# Altium footprint library ENGG4000-SysMoDEL-BMS.PcbLib: 82 footprints (part 2 of 6)
Each footprint in its own frame and in the unit in brackets; x right, y up, seen from the top. Pads: shape width x height; smd on the part's side, far side on the other; paste and mask are expansions set on the pad; w line width, h text height; cw(c..) or ccw(c..) is an arc to the next point about the centre after c.
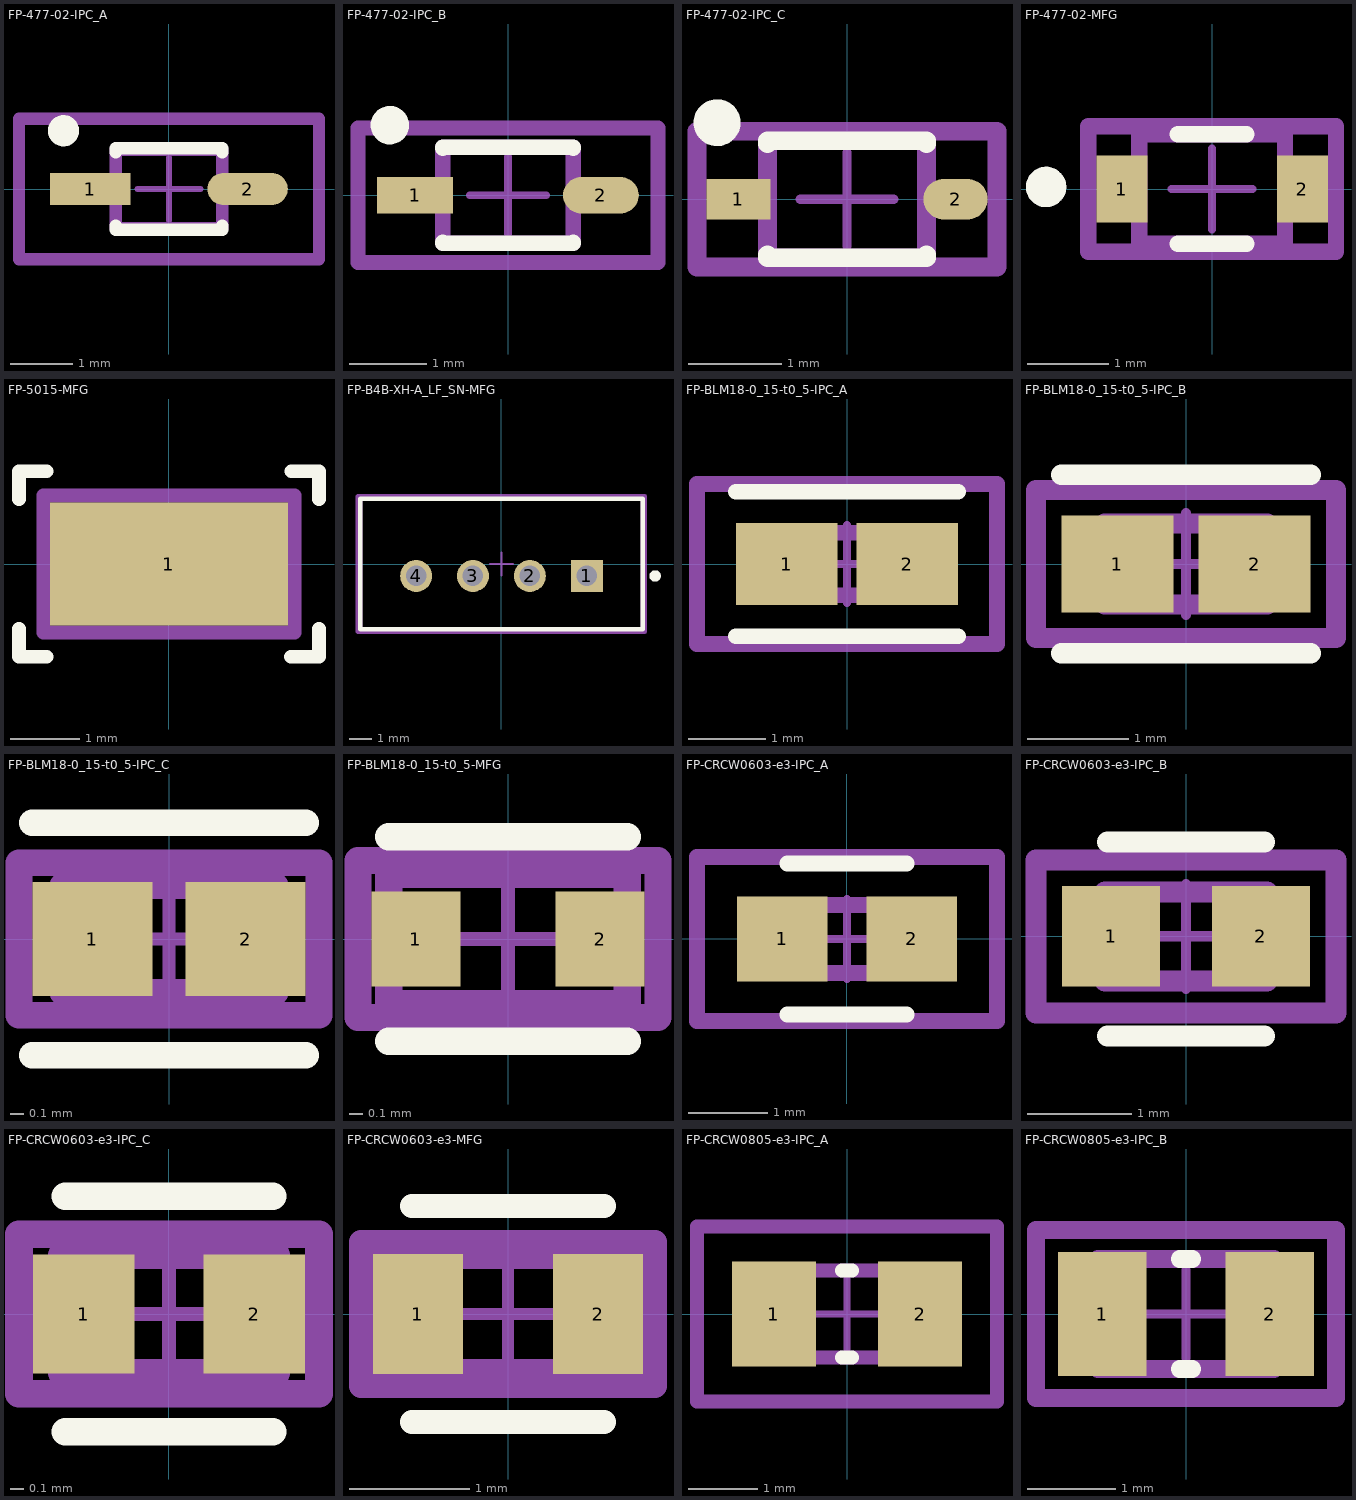
[diagram p1: the footprints below, top view; thin cyan lines are the x and y axes]

## FP-477-02-IPC_A [mm]
pads (2):
  rect 1.286x0.516 smd paste+0 mask+0: 1(-1.26,0)
  rrect100% 1.286x0.516 smd paste+0 mask+0: 2(1.26,0)
Top Overlay:
  circle w0.25: c-1.689,0.933 r0.125
  lines w0.2: -0.85,-0.585 -0.85,-0.65 0.85,-0.65 0.85,-0.585 ; -0.85,0.585 -0.85,0.65 0.85,0.65 0.85,0.585
Top Assembly:
  lines w0.2: -2.403,-1.125 -2.403,1.125 2.403,1.125 2.403,-1.125 -2.403,-1.125
  text ".Designator" at 0,0.188 h1
Top 3D Body:
  lines w0.2: -0.85,-0.625 -0.85,0.625 0.85,0.625 0.85,-0.625 -0.85,-0.625
Top Courtyard:
  lines w0.2: -2.403,-1.125 -2.403,1.125 2.403,1.125 2.403,-1.125 -2.403,-1.125
Top Component Center:
  lines w0.1: -0.5,0 0.5,0 ; 0,-0.5 0,0.5
3D body "Diode_ON_Semiconductor_NSR02100HT1G_eec.STEP": height 0.25, standoff 0, extent -2.403,-1.125 2.403,1.125

## FP-477-02-IPC_B [mm]
pads (2):
  rect 0.986x0.476 smd paste+0 mask+0: 1(-1.21,0)
  rrect100% 0.986x0.476 smd paste+0 mask+0: 2(1.21,0)
Top Overlay:
  circle w0.25: c-1.539,0.913 r0.125
  lines w0.2: -0.85,-0.613 -0.85,-0.625 0.85,-0.625 0.85,-0.613 ; -0.85,0.613 -0.85,0.625 0.85,0.625 0.85,0.613
Top Assembly:
  lines w0.2: -1.953,-0.875 1.953,-0.875 1.953,0.875 -1.953,0.875 -1.953,-0.875
  text ".Designator" at 0,0.188 h1
Top 3D Body:
  lines w0.2: -0.85,-0.625 0.85,-0.625 0.85,0.625 -0.85,0.625 -0.85,-0.625
Top Courtyard:
  lines w0.2: -1.953,-0.875 1.953,-0.875 1.953,0.875 -1.953,0.875 -1.953,-0.875
Top Component Center:
  lines w0.1: -0.5,0 0.5,0 ; 0,-0.5 0,0.5
3D body "Diode_ON_Semiconductor_NSR02100HT1G_eec.STEP": height 0.25, standoff 0, extent -1.953,-0.875 1.953,0.875

## FP-477-02-IPC_C [mm]
pads (2):
  rect 0.686x0.436 smd paste+0 mask+0: 1(-1.16,0)
  rrect100% 0.686x0.436 smd paste+0 mask+0: 2(1.16,0)
Top Overlay:
  circle w0.25: c-1.389,0.818 r0.125
  lines w0.2: -0.85,-0.593 -0.85,-0.625 0.85,-0.625 0.85,-0.593 ; -0.85,0.593 -0.85,0.625 0.85,0.625 0.85,0.593
Top Assembly:
  lines w0.2: -1.603,-0.725 -1.603,0.725 1.603,0.725 1.603,-0.725 -1.603,-0.725
  text ".Designator" at 0,0.188 h1
Top 3D Body:
  lines w0.2: -0.85,-0.625 -0.85,0.625 0.85,0.625 0.85,-0.625 -0.85,-0.625
Top Courtyard:
  lines w0.2: -1.603,-0.725 -1.603,0.725 1.603,0.725 1.603,-0.725 -1.603,-0.725
Top Component Center:
  lines w0.1: -0.5,0 0.5,0 ; 0,-0.5 0,0.5
3D body "Diode_ON_Semiconductor_NSR02100HT1G_eec.STEP": height 0.25, standoff 0, extent -1.603,-0.725 1.603,0.725

## FP-477-02-MFG [mm]
pads (2):
  rect 0.63x0.83 smd paste+0 mask+0: 1(-1.115,0) 2(1.115,0)
Top Overlay:
  circle w0.25: c-2.05,0.025 r0.125
  lines w0.2: -0.425,-0.675 0.425,-0.675 ; -0.425,0.675 0.425,0.675
Top Assembly:
  lines w0.2: -1.53,-0.775 -1.53,0.775 1.53,0.775 1.53,-0.775 -1.53,-0.775
  text ".Designator" at 0,0 h1
Top 3D Body:
  lines w0.2: -0.9,-0.675 -0.9,0.675 0.9,0.675 0.9,-0.675 -0.9,-0.675
Top Courtyard:
  lines w0.2: -1.53,-0.775 -1.53,0.775 1.53,0.775 1.53,-0.775 -1.53,-0.775
Top Component Center:
  lines w0.1: -0.5,0 0.5,0 ; 0,-0.5 0,0.5
3D body "Diode_ON_Semiconductor_NSR02100HT1G_eec.STEP": height 0.25, standoff 0, extent -1.53,-0.775 1.53,0.775

## FP-5015-MFG [mm]
pads (1):
  rect 3.43x1.78 smd paste+0 mask+0: 1(0,0)
Top Overlay:
  lines w0.2: -2.165,-0.94 -2.165,-1.34 -1.765,-1.34 ; -2.165,0.94 -2.165,1.34 -1.765,1.34 ; 1.764,-1.339 2.164,-1.339 2.164,-0.939 ; 1.766,1.339 2.166,1.339 2.166,0.939
Top Assembly:
  lines w0.2: -1.815,-0.99 1.815,-0.99 1.815,0.99 -1.815,0.99 -1.815,-0.99
  text ".Designator" at 0,0 h1
Top 3D Body:
  lines w0.2: -1.359,-0.572 1.359,-0.572 1.359,0.572 -1.359,0.572 -1.359,-0.572
Top Courtyard:
  lines w0.2: -1.815,-0.99 1.815,-0.99 1.815,0.99 -1.815,0.99 -1.815,-0.99
Top Component Center:
  lines w0.1: -0.5,0 0.5,0 ; 0,-0.5 0,0.5

## FP-B4B-XH-A_LF_SN-MFG [mm]
pads (4):
  rect 1.4x1.4 hole 0.9 paste-2539.97 mask+0: 1(3.75,-0.525)
  round 1.4 hole 0.9 paste-2539.97 mask+0: 2(1.25,-0.525) 3(-1.25,-0.525) 4(-3.75,-0.525)
Top Overlay:
  circle w0.25: c6.75,-0.525 r0.125
  lines w0.2: -6.2,-2.875 -6.2,2.875 6.2,2.875 6.2,-2.875 -6.2,-2.875
Top Assembly:
  lines w0.2: -6.3,-2.975 -6.3,2.975 6.3,2.975 6.3,-2.975 -6.3,-2.975
  text ".Designator" at 0,0.188 h1
Top 3D Body:
  lines w0.2: -6.2,-2.875 -6.2,2.875 6.2,2.875 6.2,-2.875 -6.2,-2.875
Top Courtyard:
  lines w0.2: -6.3,-2.975 -6.3,2.975 6.3,2.975 6.3,-2.975 -6.3,-2.975
Top Component Center:
  lines w0.1: -0.5,0 0.5,0 ; 0,-0.5 0,0.5
3D body "Conn_JST_B4B-XH-A_LF_SN_eec.STEP": height 0.25, standoff 0, extent -6.3,-2.975 6.3,2.975

## FP-BLM18-0_15-t0_5-IPC_A [mm]
pads (2):
  rect 1.306x1.058 smd paste+0 mask+0: 1(-0.776,0) 2(0.776,0)
Top Overlay:
  lines w0.2: -1.429,-0.929 1.429,-0.929 ; -1.429,0.929 1.429,0.929
Top Assembly:
  lines w0.2: -1.929,-1.029 -1.929,1.029 1.929,1.029 1.929,-1.029 -1.929,-1.029
  text ".Designator" at 0,0.188 h1
Top 3D Body:
  lines w0.2: -0.8,-0.4 -0.8,0.4 0.8,0.4 0.8,-0.4 -0.8,-0.4
Top Courtyard:
  lines w0.2: -1.929,-1.029 -1.929,1.029 1.929,1.029 1.929,-1.029 -1.929,-1.029
Top Component Center:
  lines w0.1: -0.5,0 0.5,0 ; 0,-0.5 0,0.5
3D body "FBead_Murata_BLM18EG331TN1D_eec.STEP": height 0.25, standoff 0, extent -1.929,-1.029 1.929,1.029

## FP-BLM18-0_15-t0_5-IPC_B [mm]
pads (2):
  rect 1.106x0.958 smd paste+0 mask+0: 1(-0.676,0) 2(0.676,0)
Top Overlay:
  lines w0.2: -1.229,-0.879 1.229,-0.879 ; -1.229,0.879 1.229,0.879
Top Assembly:
  lines w0.2: -1.479,-0.729 1.479,-0.729 1.479,0.729 -1.479,0.729 -1.479,-0.729
  text ".Designator" at 0,0.188 h1
Top 3D Body:
  lines w0.2: -0.8,-0.4 0.8,-0.4 0.8,0.4 -0.8,0.4 -0.8,-0.4
Top Courtyard:
  lines w0.2: -1.479,-0.729 1.479,-0.729 1.479,0.729 -1.479,0.729 -1.479,-0.729
Top Component Center:
  lines w0.1: -0.5,0 0.5,0 ; 0,-0.5 0,0.5
3D body "FBead_Murata_BLM18EG331TN1D_eec.STEP": height 0.25, standoff 0, extent -1.479,-0.729 1.479,0.729

## FP-BLM18-0_15-t0_5-IPC_C [mm]
pads (2):
  rect 0.906x0.858 smd paste+0 mask+0: 1(-0.576,0) 2(0.576,0)
Top Overlay:
  lines w0.2: -1.029,-0.875 1.029,-0.875 ; -1.029,0.875 1.029,0.875
Top Assembly:
  lines w0.2: -1.129,-0.575 1.129,-0.575 1.129,0.575 -1.129,0.575 -1.129,-0.575
  text ".Designator" at 0,0.188 h1
Top 3D Body:
  lines w0.2: -0.8,-0.4 0.8,-0.4 0.8,0.4 -0.8,0.4 -0.8,-0.4
Top Courtyard:
  lines w0.2: -1.129,-0.575 1.129,-0.575 1.129,0.575 -1.129,0.575 -1.129,-0.575
Top Component Center:
  lines w0.1: -0.5,0 0.5,0 ; 0,-0.5 0,0.5
3D body "FBead_Murata_BLM18EG331TN1D_eec.STEP": height 0.25, standoff 0, extent -1.129,-0.575 1.129,0.575

## FP-BLM18-0_15-t0_5-MFG [mm]
pads (2):
  rect 0.65x0.7 smd paste+0 mask+0: 1(-0.675,0) 2(0.675,0)
Top Overlay:
  lines w0.2: -0.875,-0.75 0.875,-0.75 ; -0.875,0.75 0.875,0.75
Top Assembly:
  lines w0.2: -1.1,-0.575 -1.1,0.575 1.1,0.575 1.1,-0.575 -1.1,-0.575
  text ".Designator" at 0,0.188 h1
Top 3D Body:
  lines w0.2: -0.875,-0.475 -0.875,0.475 0.875,0.475 0.875,-0.475 -0.875,-0.475
Top Courtyard:
  lines w0.2: -1.1,-0.575 -1.1,0.575 1.1,0.575 1.1,-0.575 -1.1,-0.575
Top Component Center:
  lines w0.1: -0.5,0 0.5,0 ; 0,-0.5 0,0.5
3D body "FBead_Murata_BLM18EG331TN1D_eec.STEP": height 0.25, standoff 0, extent -1.1,-0.575 1.1,0.575

## FP-CRCW0603-e3-IPC_A [mm]
pads (2):
  rect 1.135x1.062 smd paste+0 mask+0: 1(-0.815,0) 2(0.815,0)
Top Overlay:
  lines w0.2: -0.75,-0.95 0.75,-0.95 ; -0.75,0.95 0.75,0.95
Top Assembly:
  lines w0.2: -1.883,-1.031 -1.883,1.031 1.883,1.031 1.883,-1.031 -1.883,-1.031
  text ".Designator" at 0,0.188 h1
Top 3D Body:
  lines w0.2: -0.775,-0.425 -0.775,0.425 0.775,0.425 0.775,-0.425 -0.775,-0.425
Top Courtyard:
  lines w0.2: -1.883,-1.031 -1.883,1.031 1.883,1.031 1.883,-1.031 -1.883,-1.031
Top Component Center:
  lines w0.1: -0.5,0 0.5,0 ; 0,-0.5 0,0.5
3D body "Res_Vishay_CRCW06033M90FKEC_eec.STEP": height 0.25, standoff 0, extent -1.883,-1.031 1.883,1.031

## FP-CRCW0603-e3-IPC_B [mm]
pads (2):
  rect 0.935x0.962 smd paste+0 mask+0: 1(-0.715,0) 2(0.715,0)
Top Overlay:
  lines w0.2: -0.75,-0.95 0.75,-0.95 ; -0.75,0.9 0.75,0.9
Top Assembly:
  lines w0.2: -1.433,-0.731 -1.433,0.731 1.433,0.731 1.433,-0.731 -1.433,-0.731
  text ".Designator" at 0,0.188 h1
Top 3D Body:
  lines w0.2: -0.775,-0.425 -0.775,0.425 0.775,0.425 0.775,-0.425 -0.775,-0.425
Top Courtyard:
  lines w0.2: -1.433,-0.731 -1.433,0.731 1.433,0.731 1.433,-0.731 -1.433,-0.731
Top Component Center:
  lines w0.1: -0.5,0 0.5,0 ; 0,-0.5 0,0.5
3D body "Res_Vishay_CRCW06033M90FKEC_eec.STEP": height 0.25, standoff 0, extent -1.433,-0.731 1.433,0.731

## FP-CRCW0603-e3-IPC_C [mm]
pads (2):
  rect 0.735x0.862 smd paste+0 mask+0: 1(-0.615,0) 2(0.615,0)
Top Overlay:
  lines w0.2: -0.75,-0.85 0.75,-0.85 ; -0.75,0.85 0.75,0.85
Top Assembly:
  lines w0.2: -1.083,-0.575 -1.083,0.575 1.083,0.575 1.083,-0.575 -1.083,-0.575
  text ".Designator" at 0,0.188 h1
Top 3D Body:
  lines w0.2: -0.775,-0.425 -0.775,0.425 0.775,0.425 0.775,-0.425 -0.775,-0.425
Top Courtyard:
  lines w0.2: -1.083,-0.575 -1.083,0.575 1.083,0.575 1.083,-0.575 -1.083,-0.575
Top Component Center:
  lines w0.1: -0.5,0 0.5,0 ; 0,-0.5 0,0.5
3D body "Res_Vishay_CRCW06033M90FKEC_eec.STEP": height 0.25, standoff 0, extent -1.083,-0.575 1.083,0.575

## FP-CRCW0603-e3-MFG [mm]
pads (2):
  rect 0.75x1 smd paste+0 mask+0: 1(-0.75,0) 2(0.75,0)
Top Overlay:
  lines w0.2: -0.8,-0.9 0.8,-0.9 ; -0.8,0.9 0.8,0.9
Top Assembly:
  lines w0.2: -1.225,-0.6 1.225,-0.6 1.225,0.6 -1.225,0.6 -1.225,-0.6
  text ".Designator" at 0,0.188 h1
Top 3D Body:
  lines w0.2: -0.825,-0.475 0.825,-0.475 0.825,0.475 -0.825,0.475 -0.825,-0.475
Top Courtyard:
  lines w0.2: -1.225,-0.6 1.225,-0.6 1.225,0.6 -1.225,0.6 -1.225,-0.6
Top Component Center:
  lines w0.1: -0.5,0 0.5,0 ; 0,-0.5 0,0.5
3D body "Res_Vishay_CRCW06033M90FKEC_eec.STEP": height 0.25, standoff 0, extent -1.225,-0.6 1.225,0.6

## FP-CRCW0805-e3-IPC_A [mil]
pads (2):
  rect 47.5x59.38 smd paste+0 mask+0: 1(-41.37,0) 2(41.37,0)
Top Overlay:
  lines w7.87: -2.86,-24.61 2.86,-24.61 ; -2.86,24.61 2.86,24.61
Top Assembly:
  lines w7.87: -84.81,-49.37 84.81,-49.37 84.81,49.37 -84.81,49.37 -84.81,-49.37
  text ".Designator" at 0,7.4 h39.37
Top 3D Body:
  lines w7.87: -39.37,-24.61 39.37,-24.61 39.37,24.61 -39.37,24.61 -39.37,-24.61
Top Courtyard:
  lines w7.87: -84.81,-49.37 84.81,-49.37 84.81,49.37 -84.81,49.37 -84.81,-49.37
Top Component Center:
  lines w3.94: -19.68,0 19.68,0 ; 0,-19.68 0,19.68
3D body "Res_Vishay_CRCW0805100KFKEA_eec.STEP": height 10, standoff 0, extent -84.81,-49.37 84.81,49.37

## FP-CRCW0805-e3-IPC_B [mm]
pads (2):
  rect 1.007x1.408 smd paste+0 mask+0: 1(-0.951,0) 2(0.951,0)
Top Overlay:
  lines w0.2: -0.073,-0.625 0.073,-0.625 ; -0.073,0.625 0.073,0.625
Top Assembly:
  lines w0.2: -1.704,-0.954 1.704,-0.954 1.704,0.954 -1.704,0.954 -1.704,-0.954
  text ".Designator" at 0,0.188 h1
Top 3D Body:
  lines w0.2: -1,-0.625 1,-0.625 1,0.625 -1,0.625 -1,-0.625
Top Courtyard:
  lines w0.2: -1.704,-0.954 1.704,-0.954 1.704,0.954 -1.704,0.954 -1.704,-0.954
Top Component Center:
  lines w0.1: -0.5,0 0.5,0 ; 0,-0.5 0,0.5
3D body "Res_Vishay_CRCW0805100KFKEA_eec.STEP": height 0.25, standoff 0, extent -1.704,-0.954 1.704,0.954